# Altium integrated library Altium_Opto.IntLib: 3 symbols
Pins are listed as number, name and electrical type; pins without a type are passive.

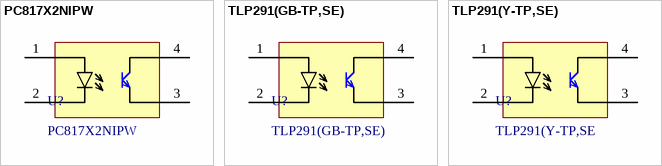
[diagram p0: symbols PC817X2NIPW to TLP291(Y-TP,SE)]

## PC817X2NIPW
designator U?
Transistor Output Optocouplers; Manufacturer: Sharp Microelectronics; Current Transfer Ratio - Max: 230 %; Current Transfer Ratio - Min: 130 %; Fall Time: 3 us; If - Forward Current: 50 mA; Isolation Voltage: 5000 Vrms; Maximum Collector Emitter Saturation Voltage: 300 mV; Maximum Collector Emitter Voltage: 80 V; Number of Channels: 1; Output Type: Phototransistor; Rise Time: 2 us; Vf - Forward Voltage: 1.4 V; Vr - Reverse Voltage: 5 V; Power Dissipation: 200 mW; ComponentLink1Description: Datasheet; ComponentLink1URL: https://www.mouser.com/datasheet/2/365/Sharpelectronics_08292023_73758-3310502.pdf; Supplier 1 URL: N/A; Supplier 2 URL: N/A; Supplier 3 URL: https://www.thegioiic.com/pc817x2nipw-optoisolator-transistor-output-5000vrms-1-channel-sop-4; Value: PC817X2NIPW; Maximum Collector Current: 50 mA; Manufacturer Part Number: PC817X2NIPW; Mount: SMD/SMT; Operating Temperature Max: + 110 C; Operating Temperature Min: - 55 C; Package / Case: SOP-4; Packaging: Tape and Reel; Supplier 1: Mouser; Supplier 1 Part Number: N/A; Supplier 2: Digi-Key; Supplier 2 Part Number: N/A; Supplier 3: thegioiic; Supplier 3 Part Number: PC817X2NIPW; LCSC Part #: C2840443
footprint PC817X_XX_IPW (SOP, 4-Leads, Body 4.58x6.50mm, Pitch 2.54mm, IPC Medium Density)
pins: 1 ANOTHE, 2 CATHODE, 3 CATHODE, 4 CATHODE

## TLP291(GB-TP,SE)
designator U?
Transistor Output Optocouplers 50mA 80V Gen Purp 50mA 1 Circuit; Manufacturer: Toshiba; Current Transfer Ratio - Max: 600 %; Current Transfer Ratio - Min: 100 %; Fall Time: 3 us; Isolation Voltage: 3750 Vrms; Maximum Collector Emitter Saturation Voltage: 300 mV; Number of Channels: 1; Output Type: Phototransistor; Rise Time: 2 us; Vf - Forward Voltage: 1.4 V; Vr - Reverse Voltage: 5 V; Power Dissipation: 200 mW; ComponentLink1Description: Datasheet; ComponentLink1URL: https://www.mouser.com/datasheet/2/408/TLP291_SE_datasheet_en_20190708-1760517.pdf; Supplier 1 URL: https://www.mouser.vn/ProductDetail/Toshiba/TLP291Y-TPSE?qs=HVbQlW5zcXVVnefsXGocbQ%3D%3D; Supplier 2 URL: https://www.digikey.com/en/products/detail/toshiba-semiconductor-and-storage/tlp291-y-tp-se/4562880; Supplier 3 URL: https://www.thegioiic.com/tlp291-optoisolator-transistor-output-3750vrms-1-channel-4-sop; Value: TLP291(GB-TP,SE); If - Forward Current: 50 mA; Maximum Collector Current: 50 mA; Maximum Collector Emitter Voltage: 80 V; Manufacturer Part Number: TLP291(GB-TP,SE); Mount: SMD/SMT; Operating Temperature Max: + 110 C; Operating Temperature Min: - 55 C; Package / Case: SOP-4; Packaging: Tape and Reel; Supplier 1: Mouser; Supplier 1 Part Number: 757-TLP291(Y-TPSE; Supplier 2: Digi-Key; Supplier 2 Part Number: TLP291(Y-TPSETR-ND; Supplier 3: thegioiic; Supplier 3 Part Number: TLP291; LCSC Part #: C55144
footprint 11-3C1 (SOIC, 4-Leads, Body 2.60x4.60mm, Pitch 1.27mm, IPC Medium Density)
pins: 1 ANOTHE, 2 CATHODE, 3 CATHODE, 4 CATHODE

## TLP291(Y-TP,SE)
designator U?, comment TLP291(Y-TP,SE
Transistor Output Optocouplers 50mA 80V Gen Purp 50mA 1 Circuit; Manufacturer: Toshiba; Current Transfer Ratio - Max: 150 %; Current Transfer Ratio - Min: 50 %; Fall Time: 3 us; Isolation Voltage: 3750 Vrms; Maximum Collector Emitter Saturation Voltage: 300 mV; Number of Channels: 1; Output Type: Phototransistor; Rise Time: 2 us; Vf - Forward Voltage: 1.4 V; Vr - Reverse Voltage: 5 V; Power Dissipation: 200 mW; ComponentLink1Description: Datasheet; ComponentLink1URL: https://www.mouser.com/datasheet/2/408/TLP291_SE_datasheet_en_20190708-1760517.pdf; Supplier 1 URL: https://www.mouser.vn/ProductDetail/Toshiba/TLP291Y-TPSE?qs=HVbQlW5zcXVVnefsXGocbQ%3D%3D; Supplier 2 URL: https://www.digikey.com/en/products/detail/toshiba-semiconductor-and-storage/tlp291-y-tp-se/4562880; Supplier 3 URL: https://www.thegioiic.com/tlp291-optoisolator-transistor-output-3750vrms-1-channel-4-sop; Value: TLP291(Y-TP,SE; If - Forward Current: 50 mA; Maximum Collector Current: 50 mA; Maximum Collector Emitter Voltage: 80 V; Manufacturer Part Number: TLP291(Y-TP,SE; Mount: SMD/SMT; Operating Temperature Max: + 110 C; Operating Temperature Min: - 55 C; Package / Case: SOP-4; Packaging: Tape and Reel; Supplier 1: Mouser; Supplier 1 Part Number: 757-TLP291(Y-TPSE; Supplier 2: Digi-Key; Supplier 2 Part Number: TLP291(Y-TPSETR-ND; Supplier 3: thegioiic; Supplier 3 Part Number: TLP291; LCSC Part #: C5156505
footprint 11-3C1 (SOIC, 4-Leads, Body 2.60x4.60mm, Pitch 1.27mm, IPC Medium Density)
pins: 1 ANOTHE, 2 CATHODE, 3 CATHODE, 4 CATHODE